# Altium schematic symbol library WE-BPF.SchLib: 5 symbols
Pins are listed as number, name and electrical type; pins without a type are passive.

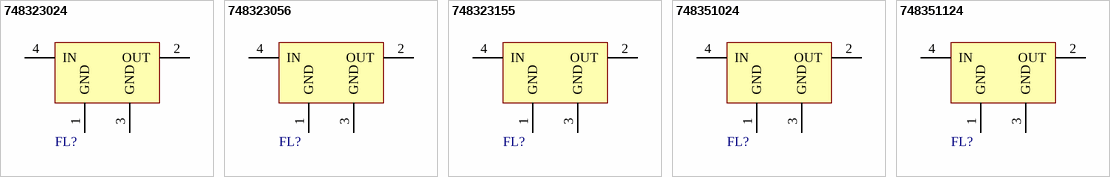
[diagram p0: symbols 748323024 to 748351124]

## 748323024
designator FL?, comment 2400-2500MHz  (value not drawn)
WE-BPF Multilayer Chip Band-Pass Filter, SMT, size 0805, 2400-2500MHz, 2.2dB; Manufacturer Part Number: 748323024; Manufacturer: Wurth Elektronik; Case/Size Code: 0805; VSWR: 2; ComponentLink1Description: Website Link; ComponentLink1URL: https://www.we-online.com/redexpert/article/748323024?ad; ComponentLink2Description: Datasheet Link; ComponentLink2URL: https://www.we-online.com/redexpert/spec/748323024?ad; Category: Signal Filters; Match Code: WE-BPF; Mount: Surface Mount; Operating Temperature Max: 85°C; Operating Temperature Min: -40°C; Packaging: Tape and Reel; Length: 2mm; Width: 1.25mm; Height: 0.95mm; Frequency Range: 2400-2500MHz; Insertion Loss: 2.2dB
footprint WE-BPF_0805
pins: 1 GND, 2 OUT, 3 GND, 4 IN

## 748323056
designator FL?, comment 4900-5920MHz  (value not drawn)
WE-BPF Multilayer Chip Band-Pass Filter, SMT, size 0805, 4900-5920MHz, 1.5dB; Manufacturer Part Number: 748323056; Manufacturer: Wurth Elektronik; Case/Size Code: 0805; VSWR: 2; ComponentLink1Description: Website Link; ComponentLink1URL: https://www.we-online.com/redexpert/article/748323056?ad; ComponentLink2Description: Datasheet Link; ComponentLink2URL: https://www.we-online.com/redexpert/spec/748323056?ad; Category: Signal Filters; Match Code: WE-BPF; Mount: Surface Mount; Operating Temperature Max: 85°C; Operating Temperature Min: -40°C; Packaging: Tape and Reel; Length: 2mm; Width: 1.25mm; Height: 0.95mm; Frequency Range: 4900-5920MHz; Insertion Loss: 1.5dB
footprint WE-BPF_0805
pins: 1 GND, 2 OUT, 3 GND, 4 IN

## 748323155
designator FL?, comment 5150-5875MHz  (value not drawn)
WE-BPF Multilayer Chip Band-Pass Filter, SMT, size 0805, 5150-5875MHz, 1.5dB; Manufacturer Part Number: 748323155; Manufacturer: Wurth Elektronik; Case/Size Code: 0805; VSWR: 2; ComponentLink1Description: Website Link; ComponentLink1URL: https://www.we-online.com/redexpert/article/748323155?ad; ComponentLink2Description: Datasheet Link; ComponentLink2URL: https://www.we-online.com/redexpert/spec/748323155?ad; Category: Signal Filters; Match Code: WE-BPF; Mount: Surface Mount; Operating Temperature Max: 85°C; Operating Temperature Min: -40°C; Packaging: Tape and Reel; Length: 2mm; Width: 1.25mm; Height: 0.95mm; Frequency Range: 5150-5875MHz; Insertion Loss: 1.5dB
footprint WE-BPF_0805
pins: 1 GND, 2 OUT, 3 GND, 4 IN

## 748351024
designator FL?, comment 2400-2500MHz  (value not drawn)
WE-BPF Multilayer Chip Band-Pass Filter, SMT, size 1008, 2400-2500MHz, 1.8dB; Manufacturer Part Number: 748351024; Manufacturer: Wurth Elektronik; Case/Size Code: 1008; VSWR: 2; ComponentLink1Description: Website Link; ComponentLink1URL: https://www.we-online.com/redexpert/article/748351024?ad; ComponentLink2Description: Datasheet Link; ComponentLink2URL: https://www.we-online.com/redexpert/spec/748351024?ad; Category: Signal Filters; Match Code: WE-BPF; Mount: Surface Mount; Operating Temperature Max: 85°C; Operating Temperature Min: -40°C; Packaging: Tape and Reel; Length: 2.5mm; Width: 2mm; Height: 0.9mm; Frequency Range: 2400-2500MHz; Insertion Loss: 1.8dB
footprint WE-BPF_1008
pins: 1 GND, 2 OUT, 3 GND, 4 IN

## 748351124
designator FL?, comment 2400-2500MHz  (value not drawn)
WE-BPF Multilayer Chip Band-Pass Filter, SMT, size 1008, 2400-2500MHz, 2.5dB; Manufacturer Part Number: 748351124; Manufacturer: Wurth Elektronik; Case/Size Code: 1008; VSWR: 2; ComponentLink1Description: Website Link; ComponentLink1URL: https://www.we-online.com/redexpert/article/748351124?ad; ComponentLink2Description: Datasheet Link; ComponentLink2URL: https://www.we-online.com/redexpert/spec/748351124?ad; Category: Signal Filters; Match Code: WE-BPF; Mount: Surface Mount; Operating Temperature Max: 85°C; Operating Temperature Min: -40°C; Packaging: Tape and Reel; Length: 2.5mm; Width: 2mm; Height: 0.9mm; Frequency Range: 2400-2500MHz; Insertion Loss: 2.5dB
footprint WE-BPF_1008
pins: 1 GND, 2 OUT, 3 GND, 4 IN